# EAGLE library part HTRAM1 (library Transputers)
HTRAM size-1 Board INMOS Standard Transputer Boards for T9000 series components. Source: INMOS T9000 development Tools Preliminary Datasheets 1993. Arto Kyyhkynen, artoky@dlc.fi
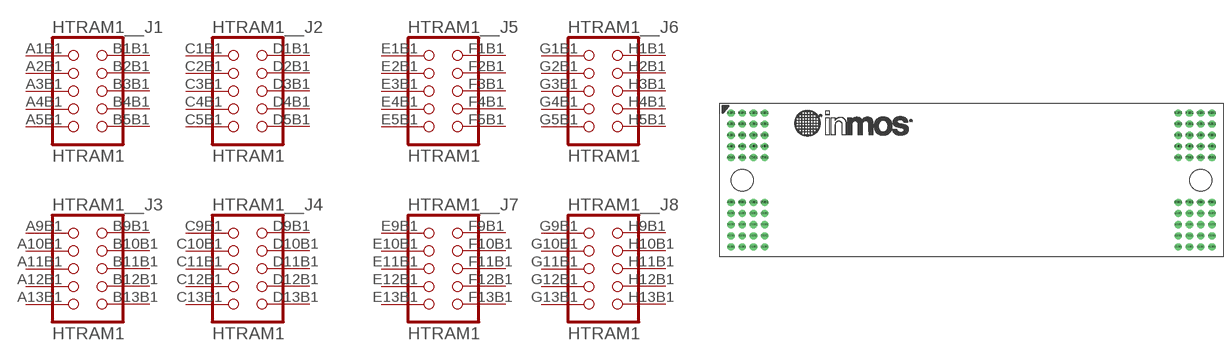
[diagram p19: symbol with the pads of HTRAM-SIZE1; footprint HTRAM-SIZE1]

Designator prefix HTRAM1_; gates _J1=HTRAM_TMM _J2=HTRAM_TMM _J3=HTRAM_TMM _J4=HTRAM_TMM _J5=HTRAM_TMM _J6=HTRAM_TMM _J7=HTRAM_TMM _J8=HTRAM_TMM

## HTRAM1  [HTRAM-SIZE1]
A1B1  _J1:1  pas
A2B1  _J1:3  pas
A3B1  _J1:5  pas
A4B1  _J1:7  pas
A5B1  _J1:9  pas
A9B1  _J3:1  pas
A10B1  _J3:3  pas
A11B1  _J3:5  pas
A12B1  _J3:7  pas
A13B1  _J3:9  pas
B1B1  _J1:2  pas
B2B1  _J1:4  pas
B3B1  _J1:6  pas
B4B1  _J1:8  pas
B5B1  _J1:10  pas
B9B1  _J3:2  pas
B10B1  _J3:4  pas
B11B1  _J3:6  pas
B12B1  _J3:8  pas
B13B1  _J3:10  pas
C1B1  _J2:1  pas
C2B1  _J2:3  pas
C3B1  _J2:5  pas
C4B1  _J2:7  pas
C5B1  _J2:9  pas
C9B1  _J4:1  pas
C10B1  _J4:3  pas
C11B1  _J4:5  pas
C12B1  _J4:7  pas
C13B1  _J4:9  pas
D1B1  _J2:2  pas
D2B1  _J2:4  pas
D3B1  _J2:6  pas
D4B1  _J2:8  pas
D5B1  _J2:10  pas
D9B1  _J4:2  pas
D10B1  _J4:4  pas
D11B1  _J4:6  pas
D12B1  _J4:8  pas
D13B1  _J4:10  pas
E1B1  _J5:1  pas
E2B1  _J5:3  pas
E3B1  _J5:5  pas
E4B1  _J5:7  pas
E5B1  _J5:9  pas
E9B1  _J7:1  pas
E10B1  _J7:3  pas
E11B1  _J7:5  pas
E12B1  _J7:7  pas
E13B1  _J7:9  pas
F1B1  _J5:2  pas
F2B1  _J5:4  pas
F3B1  _J5:6  pas
F4B1  _J5:8  pas
F5B1  _J5:10  pas
F9B1  _J7:2  pas
F10B1  _J7:4  pas
F11B1  _J7:6  pas
F12B1  _J7:8  pas
F13B1  _J7:10  pas
G1B1  _J6:1  pas
G2B1  _J6:3  pas
G3B1  _J6:5  pas
G4B1  _J6:7  pas
G5B1  _J6:9  pas
G9B1  _J8:1  pas
G10B1  _J8:3  pas
G11B1  _J8:5  pas
G12B1  _J8:7  pas
G13B1  _J8:9  pas
H1B1  _J6:2  pas
H2B1  _J6:4  pas
H3B1  _J6:6  pas
H4B1  _J6:8  pas
H5B1  _J6:10  pas
H9B1  _J8:2  pas
H10B1  _J8:4  pas
H11B1  _J8:6  pas
H12B1  _J8:8  pas
H13B1  _J8:10  pas

## Footprint HTRAM-SIZE1 (pad centres in mm)
HTRAM size-1
drill 0.777 round: A1B1 0,0; A2B1 0,-2; A3B1 0,-4; A4B1 0,-6; A5B1 0,-8; A9B1 0,-16; A10B1 0,-18; A11B1 0,-20; A12B1 0,-22; A13B1 0,-24; B1B1 2,0; B2B1 2,-2; B3B1 2,-4; B4B1 2,-6; B5B1 2,-8; B9B1 2,-16; B10B1 2,-18; B11B1 2,-20; B12B1 2,-22; B13B1 2,-24; C1B1 4,0; C2B1 4,-2; C3B1 4,-4; C4B1 4,-6; C5B1 4,-8; C9B1 4,-16; C10B1 4,-18; C11B1 4,-20; C12B1 4,-22; C13B1 4,-24; D1B1 6,0; D2B1 6,-2; D3B1 6,-4; D4B1 6,-6; D5B1 6,-8; D9B1 6,-16; D10B1 6,-18; D11B1 6,-20; D12B1 6,-22; D13B1 6,-24; E1B1 80,0; E2B1 80,-2; E3B1 80,-4; E4B1 80,-6; E5B1 80,-8; E9B1 80,-16; E10B1 80,-18; E11B1 80,-20; E12B1 80,-22; E13B1 80,-24; F1B1 82,0; F2B1 82,-2; F3B1 82,-4; F4B1 82,-6; F5B1 82,-8; F9B1 82,-16; F10B1 82,-18; F11B1 82,-20; F12B1 82,-22; F13B1 82,-24; G1B1 84,0; G2B1 84,-2; G3B1 84,-4; G4B1 84,-6; G5B1 84,-8; G9B1 84,-16; G10B1 84,-18; G11B1 84,-20; G12B1 84,-22; G13B1 84,-24; H1B1 86,0; H2B1 86,-2; H3B1 86,-4; H4B1 86,-6; H5B1 86,-8; H9B1 86,-16; H10B1 86,-18; H11B1 86,-20; H12B1 86,-22; H13B1 86,-24
hole 3.85 at 2,-12
hole 3.85 at 84,-12